# Altium footprint library WeatherStation.PcbLib: 45 footprints (part 1 of 3)
Each footprint in its own frame and in the unit in brackets; x right, y up, seen from the top. Pads: shape width x height; smd on the part's side, far side on the other; paste and mask are expansions set on the pad; w line width, h text height; cw(c..) or ccw(c..) is an arc to the next point about the centre after c.
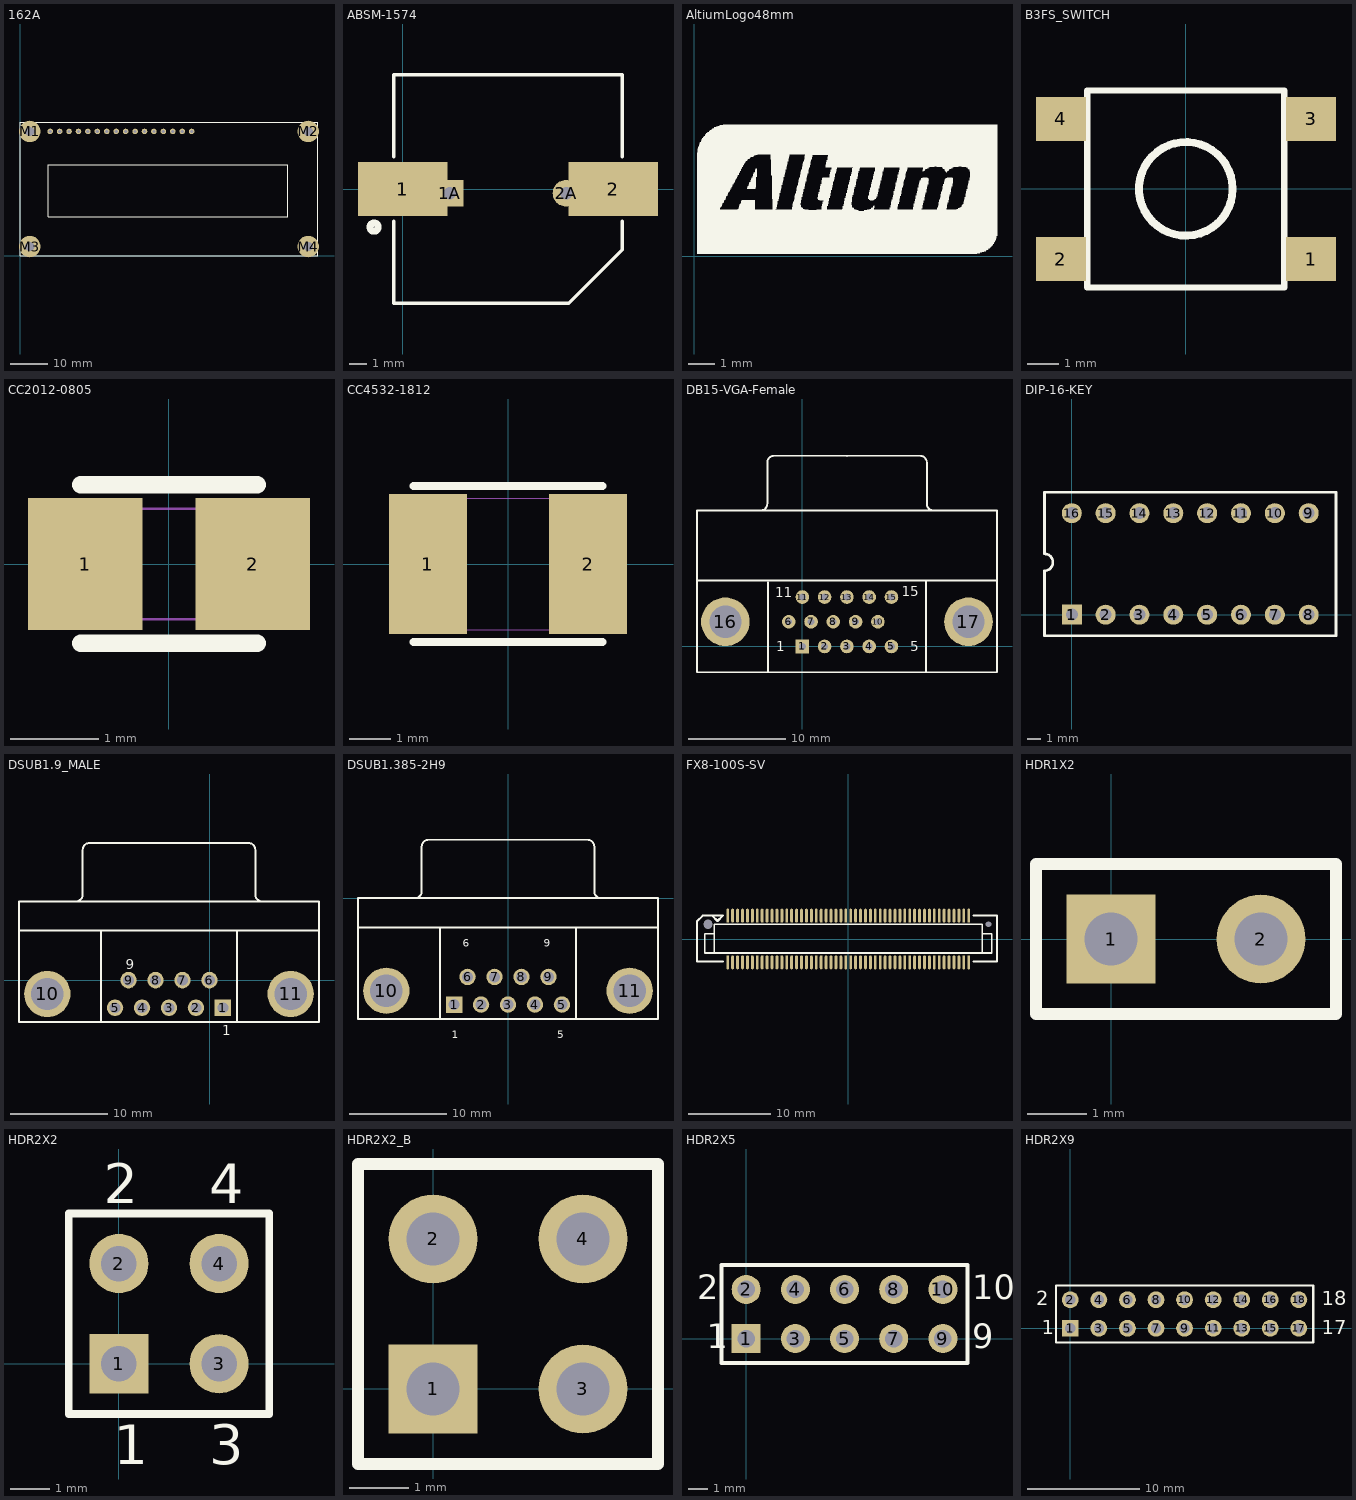
[diagram p0: the footprints below, top view; thin cyan lines are the x and y axes]

## 162A [mm]
pads (20):
  round 1.5 hole 0.9: 1(8.001,33.503) 2(10.541,33.503) 3(13.081,33.503) 4(15.621,33.503) 5(18.161,33.503) 6(20.701,33.503) 7(23.241,33.503) 8(25.781,33.503) 9(28.321,33.503) 10(30.861,33.503) 11(33.401,33.503) 12(35.941,33.503) 13(38.481,33.503) 14(41.021,33.503) 15(43.561,33.503) 16(46.101,33.503)
  round 5.8 / inner round 0 / far side round 0 hole 2.5 unplated: M1(2.501,33.503) M2(77.501,33.503) M3(2.501,2.503) M4(77.501,2.503)
Top Overlay:
  lines w0.2: 0.001,0.003 80.001,0.003 80.001,36.003 0.001,36.003 0.001,0.003 ; 7.501,10.503 72.001,10.503 72.001,24.503 7.501,24.503 7.501,10.503

## ABSM-1574 [mm]
pads (4):
  rect 5x3 smd: 1(0,0) 2(11.8,0)
  rect 1.5x1.5 hole 0.7: 1A(2.65,-0.24)
  round 1.5 hole 0.7: 2A(9.15,-0.24)
Top Overlay:
  circle w0.4: c-1.6,-2.134 r0.227
  lines w0.2: -0.5,-1.8 -0.5,-6.4 9.3,-6.4 12.3,-3.4 12.3,-1.8 ; -0.5,1.8 -0.5,6.4 12.3,6.4 12.3,1.8

## AltiumLogo48mm [mm]
Top Overlay:
  drawing of 845 lines, arcs and shapes, not listed

## B3FS_SWITCH [mm]
pads (4):
  rect 1.6x1.4 smd: 1(4.01,-2.25) 2(-4,-2.25) 3(4.01,2.24) 4(-4,2.24)
Top Overlay:
  circle w0.254: c0,0 r1.5
  lines w0.2: -3.16,-3.16 -3.16,3.15 3.15,3.15 3.15,-3.16 -3.16,-3.16

## CC2012-0805 [mm]
pads (2):
  rect 1.3x1.5 smd: 1(-0.95,0) 2(0.95,0)
Top Overlay:
  lines w0.2: -1,-0.9 1,-0.9 ; -1,0.9 1,0.9
Mechanical 15:
  lines w0.025: -0.975,-0.625 -0.975,0.625 0.975,0.625 0.975,-0.625 -0.975,-0.625

## CC4532-1812 [mm]
pads (2):
  rect 1.9x3.4 smd: 1(-1.95,0) 2(1.95,0)
Top Overlay:
  lines w0.2: -2.3,-1.9 2.3,-1.9 ; -2.3,1.9 2.3,1.9
Mechanical 15:
  lines w0.025: -2.25,-1.6 2.25,-1.6 2.25,1.6 -2.25,1.6 -2.25,-1.6

## DB15-VGA-Female [mm]
pads (17):
  rect 1.4x1.4 hole 0.7: 1(0,0)
  round 1.4 hole 0.7: 2(2.29,0) 3(4.58,0) 4(6.87,0) 5(9.16,0) 6(-1.4,2.54) 7(0.89,2.54) 8(3.18,2.54) 9(5.47,2.54) 10(7.76,2.54) 11(0,5.08) 12(2.29,5.08) 13(4.58,5.08) 14(6.87,5.08) 15(9.16,5.08)
  round 5 hole 3.3: 16(-7.915,2.54) 17(17.075,2.54)
Top Overlay:
  lines w0.2: -10.83,6.77 20.01,6.77 ; -4.3,13.975 ccw(c-4.3,14.67) -3.605,14.67 -3.605,18.91 cw(c-2.91,18.91) -2.91,19.605 4.595,19.59 12.1,19.605 cw(c12.1,18.91) 12.795,18.91 12.795,14.67 ccw(c13.49,14.67) 13.49,13.975 ; -3.535,-2.65 -3.535,6.57 ; 12.725,-2.65 12.725,6.65 ; -10.83,-2.65 -10.83,13.97 20.01,13.97 20.01,-2.65 -10.83,-2.65
  text "11" at -2.805,5.07 h1
  text "5" at 11.1,-0.5 h1
  text "15" at 10.195,5.17 h1
  text "1" at -2.7,-0.5 h1

## DIP-16-KEY [mm]
pads (16):
  rect 1.5x1.5 hole 0.9: 1(0,0)
  round 1.5 hole 0.9: 2(2.54,0) 3(5.08,0) 4(7.62,0) 5(10.16,0) 6(12.7,0) 7(15.24,0) 8(17.78,0) 9(17.78,7.62) 10(15.24,7.62) 11(12.7,7.62) 12(10.16,7.62) 13(7.62,7.62) 14(5.08,7.62) 15(2.54,7.62) 16(0,7.62)
Top Overlay:
  lines w0.2: -2.05,4.57 cw(c-2.05,3.935) -2.05,3.3 -2.05,-1.59 19.83,-1.59 19.83,9.2 -2.05,9.2 -2.05,4.6

## DSUB1.9_MALE [mm]
pads (11):
  rect 1.69x1.69 hole 1.1: 1(1.382,-2.843)
  round 1.69 hole 1.1: 2(-1.388,-2.843) 3(-4.158,-2.843) 4(-6.928,-2.843) 5(-9.698,-2.843) 6(-0.003,-0.003) 7(-2.773,-0.003) 8(-5.543,-0.003) 9(-8.313,-0.003)
  round 4.76 hole 3.3: 10(-16.653,-1.423) 11(8.337,-1.423)
Top Overlay:
  lines w0.2: -19.558,5.077 11.242,5.077 ; -13.718,8.082 ccw(c-13.718,8.777) -13.023,8.777 -13.023,13.377 ; -13.018,13.382 cw(c-12.323,13.382) -12.323,14.077 4.007,14.077 cw(c4.007,13.382) 4.702,13.382 ; -11.158,-4.323 -11.158,5.077 ; 2.842,-4.323 2.842,5.077 ; 4.707,13.377 4.707,8.777 ccw(c5.402,8.777) 5.402,8.082 ; -19.558,-4.323 11.242,-4.323 11.242,8.077 -19.558,8.077 -19.558,-4.323
  text "9" at -8.585,1.092 h1
  text "1" at 1.321,-5.639 h1

## DSUB1.385-2H9 [mm]
pads (11):
  rect 1.69x1.69 hole 1.1: 1(-5.54,-10.92)
  round 1.69 hole 1.1: 2(-2.77,-10.92) 3(0,-10.92) 4(2.77,-10.92) 5(5.54,-10.92) 6(-4.155,-8.08) 7(-1.385,-8.08) 8(1.385,-8.08) 9(4.155,-8.08)
  round 4.76 hole 3.3: 10(-12.495,-9.5) 11(12.495,-9.5)
Top Overlay:
  lines w0.2: -15.4,-3 15.4,-3 ; -9.56,0.005 ccw(c-9.56,0.7) -8.865,0.7 -8.865,5.3 ; -8.86,5.305 cw(c-8.165,5.305) -8.165,6 8.165,6 cw(c8.165,5.305) 8.86,5.305 ; -7,-12.4 -7,-3 ; 7,-12.4 7,-3 ; 8.865,5.3 8.865,0.7 ccw(c9.56,0.7) 9.56,0.005 ; -15.4,-12.4 15.4,-12.4 15.4,0 -15.4,0 -15.4,-12.4
  text "6" at -4.655,-4.975 h0.8
  text "9" at 3.655,-4.975 h0.8
  text "5" at 5.04,-14.375 h0.8
  text "1" at -5.79,-14.375 h0.8

## FX8-100S-SV [mm]
pads (102):
  oval 0.35x1.7 smd: 1(-14.7,2.85) 2(-14.7,-2.85) 3(-14.1,2.85) 4(-14.1,-2.85) 5(-13.5,2.85) 6(-13.5,-2.85) 7(-12.9,2.85) 8(-12.9,-2.85) 9(-12.3,2.85) 10(-12.3,-2.85) 11(-11.7,2.85) 12(-11.7,-2.85) 13(-11.1,2.85) 14(-11.1,-2.85) 15(-10.5,2.85) 16(-10.5,-2.85) 17(-9.9,2.85) 18(-9.9,-2.85) 19(-9.3,2.85) 20(-9.3,-2.85) 21(-8.7,2.85) 22(-8.7,-2.85) 23(-8.1,2.85) 24(-8.1,-2.85) 25(-7.5,2.85) 26(-7.5,-2.85) 27(-6.9,2.85) 28(-6.9,-2.85) 29(-6.3,2.85) 30(-6.3,-2.85) 31(-5.7,2.85) 32(-5.7,-2.85) 33(-5.1,2.85) 34(-5.1,-2.85) 35(-4.5,2.85) 36(-4.5,-2.85) 37(-3.9,2.85) 38(-3.9,-2.85) 39(-3.3,2.85) 40(-3.3,-2.85) 41(-2.7,2.85) 42(-2.7,-2.85) 43(-2.1,2.85) 44(-2.1,-2.85) 45(-1.5,2.85) 46(-1.5,-2.85) 47(-0.9,2.85) 48(-0.9,-2.85) 49(-0.3,2.85) 50(-0.3,-2.85) 51(0.3,2.85) 52(0.3,-2.85) 53(0.9,2.85) 54(0.9,-2.85) 55(1.5,2.85) 56(1.5,-2.85) 57(2.1,2.85) 58(2.1,-2.85) 59(2.7,2.85) 60(2.7,-2.85) 61(3.3,2.85) 62(3.3,-2.85) 63(3.9,2.85) 64(3.9,-2.85) 65(4.5,2.85) 66(4.5,-2.85) 67(5.1,2.85) 68(5.1,-2.85) 69(5.7,2.85) 70(5.7,-2.85) 71(6.3,2.85) 72(6.3,-2.85) 73(6.9,2.85) 74(6.9,-2.85) 75(7.5,2.85) 76(7.5,-2.85) 77(8.1,2.85) 78(8.1,-2.85) 79(8.7,2.85) 80(8.7,-2.85) 81(9.3,2.85) 82(9.3,-2.85) 83(9.9,2.85) 84(9.9,-2.85) 85(10.5,2.85) 86(10.5,-2.85) 87(11.1,2.85) 88(11.1,-2.85) 89(11.7,2.85) 90(11.7,-2.85) 91(12.3,2.85) 92(12.3,-2.85) 93(12.9,2.85) 94(12.9,-2.85) 95(13.5,2.85) 96(13.5,-2.85) 97(14.1,2.85) 98(14.1,-2.85) 99(14.7,2.85) 100(14.7,-2.85)
  round 1 hole 1.1 unplated: M1(-17.1,1.8)
  round 0.6 hole 0.7 unplated: M2(17.1,1.8)
Top Overlay:
  lines w0.2: -16.35,0.65 -17.5,0.65 -17.5,-1.7 -16.35,-1.7 ; 16.35,0.65 17.5,0.65 17.5,-1.7 16.35,-1.7 ; -16.35,-1.7 16.35,-1.7 ; -16.35,-1.7 -16.35,1.8 16.35,1.8 16.35,-1.7
  lines w0.25: -16.6,2.85 -15.95,2.2 -15.3,2.85 -17.75,2.85 -18.45,2.15 -18.45,-2.75 -15.3,-2.75 ; 15.3,-2.75 18.15,-2.75 18.15,2.85 15.3,2.85

## HDR1X2 [mm]
pads (2):
  rect 1.5x1.5 hole 0.9: 1(0,0)
  round 1.5 hole 0.9: 2(2.54,0)
Top Overlay:
  lines w0.2: -1.27,-1.27 3.81,-1.27 3.81,1.27 -1.27,1.27 -1.27,-1.27

## HDR2X2 [mm]
pads (4):
  rect 1.5x1.5 hole 0.9: 1(0,0)
  round 1.5 hole 0.9: 2(0,2.54) 3(2.54,0) 4(2.54,2.54)
Top Overlay:
  lines w0.2: -1.27,-1.27 3.81,-1.27 3.81,3.81 -1.27,3.81 -1.27,-1.27
  text "3" at 2.286,-2.54 h1
  text "4" at 2.286,4.064 h1
  text "2" at -0.381,4.064 h1
  text "1" at -0.127,-2.54 h1

## HDR2X2_B [mm]
pads (4):
  rect 1.5x1.5 hole 0.9: 1(0,0)
  round 1.5 hole 0.9: 2(0,2.54) 3(2.54,0) 4(2.54,2.54)
Top Overlay:
  lines w0.2: -1.27,-1.27 -1.27,3.81 3.81,3.81 3.81,-1.27 -1.27,-1.27

## HDR2X5 [mm]
pads (10):
  rect 1.5x1.5 hole 0.9: 1(0,0)
  round 1.5 hole 0.9: 2(0,2.54) 3(2.54,0) 4(2.54,2.54) 5(5.08,0) 6(5.08,2.54) 7(7.62,0) 8(7.62,2.54) 9(10.16,0) 10(10.16,2.54)
Top Overlay:
  lines w0.2: -1.27,-1.27 -1.27,3.81 11.43,3.81 11.43,-1.27 -1.27,-1.27
  text "2" at -2.54,2.032 h1.27
  text "1" at -2.032,-0.508 h1.27
  text "9" at 11.684,-0.508 h1.27
  text "10" at 11.684,2.032 h1.27

## HDR2X9 [mm]
pads (18):
  rect 1.5x1.5 hole 0.9: 1(0,0)
  round 1.5 hole 0.9: 2(0,2.54) 3(2.54,0) 4(2.54,2.54) 5(5.08,0) 6(5.08,2.54) 7(7.62,0) 8(7.62,2.54) 9(10.16,0) 10(10.16,2.54) 11(12.7,0) 12(12.7,2.54) 13(15.24,0) 14(15.24,2.54) 15(17.78,0) 16(17.78,2.54) 17(20.32,0) 18(20.32,2.54)
Top Overlay:
  lines w0.2: -1.27,-1.27 -1.27,3.81 21.59,3.81 21.59,-1.27 -1.27,-1.27
  text "2" at -3.048,2.032 h1.27
  text "1" at -2.54,-0.508 h1.27
  text "17" at 22.352,-0.508 h1.27
  text "18" at 22.352,2.032 h1.27